# Altium footprint library JTAG_FOOTPRINTS.PcbLib: 3 footprints
Each footprint in its own frame and in the unit in brackets; x right, y up, seen from the top. Pads: shape width x height; smd on the part's side, far side on the other; paste and mask are expansions set on the pad; w line width, h text height; cw(c..) or ccw(c..) is an arc to the next point about the centre after c.
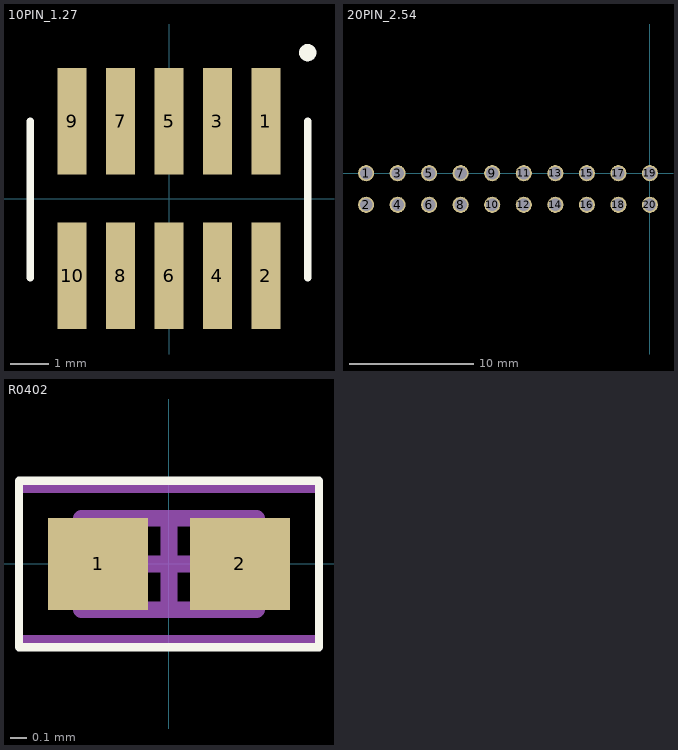
[diagram p0: the footprints below, top view; thin cyan lines are the x and y axes]

## 10PIN_1.27 [mil]
pads (10):
  rect 30x110 smd: 1(100,80) 2(100,-79.84) 3(50,80) 4(50,-79.84) 5(0,80) 6(0,-79.84) 7(-50,80) 8(-50,-79.84) 9(-100,80) 10(-100,-79.84)
Top Overlay:
  circle w10: c143.31,150.87 r3.94
  lines w7.87: -143.31,-81.42 -143.31,80 ; 143.31,-81.42 143.31,80
3D body "20021121-00010XXLFc.stp": height 161.42, standoff -15.75, extent -125,-103.27 125,113.27

## 20PIN_2.54 [mm]
pads (20):
  round 1.3 hole 1: 1(-22.86,0) 2(-22.86,-2.54) 3(-20.32,0) 4(-20.32,-2.54) 5(-17.78,0) 6(-17.78,-2.54) 7(-15.24,0) 8(-15.24,-2.54) 9(-12.7,0) 10(-12.7,-2.54) 11(-10.16,0) 12(-10.16,-2.54) 13(-7.62,0) 14(-7.62,-2.54) 15(-5.08,0) 16(-5.08,-2.54) 17(-2.54,0) 18(-2.54,-2.54) 19(0,0) 20(0,-2.54)
3D body "SFH11-xxPC-D10-RA-BK.STEP": height 7.1, standoff -2.7, extent -26.717,-12.573 3.603,0.267

## R0402 [mm] "Chip Resistor, 2-Leads, Body 1.00x0.50mm, IPC Medium Density"
height 0.4
pads (2):
  rect 0.6x0.55 smd: 1(-0.425,0) 2(0.425,0)
Top Overlay:
  lines w0.05: -0.9,-0.5 -0.9,0.5 0.9,0.5 0.9,-0.5 -0.9,-0.5
Mechanical 13:
  lines w0.1: -0.525,-0.275 -0.525,0.275 0.525,0.275 0.525,-0.275 -0.525,-0.275
Mechanical 15:
  lines w0.05: -0.9,-0.45 -0.9,0.45 0.9,0.45 0.9,-0.45 -0.9,-0.45
  lines w0.1: -0.275,0 0.275,0 ; 0,-0.275 0,0.275
3D body "RESC1005X04N.step": height 0.4, standoff 0, extent -0.525,-0.275 0.525,0.275